# Altium integrated library Analog Devices Data Converters Digital-to-Analog Converters.IntLib: 2231 symbols (part 27 of 181)
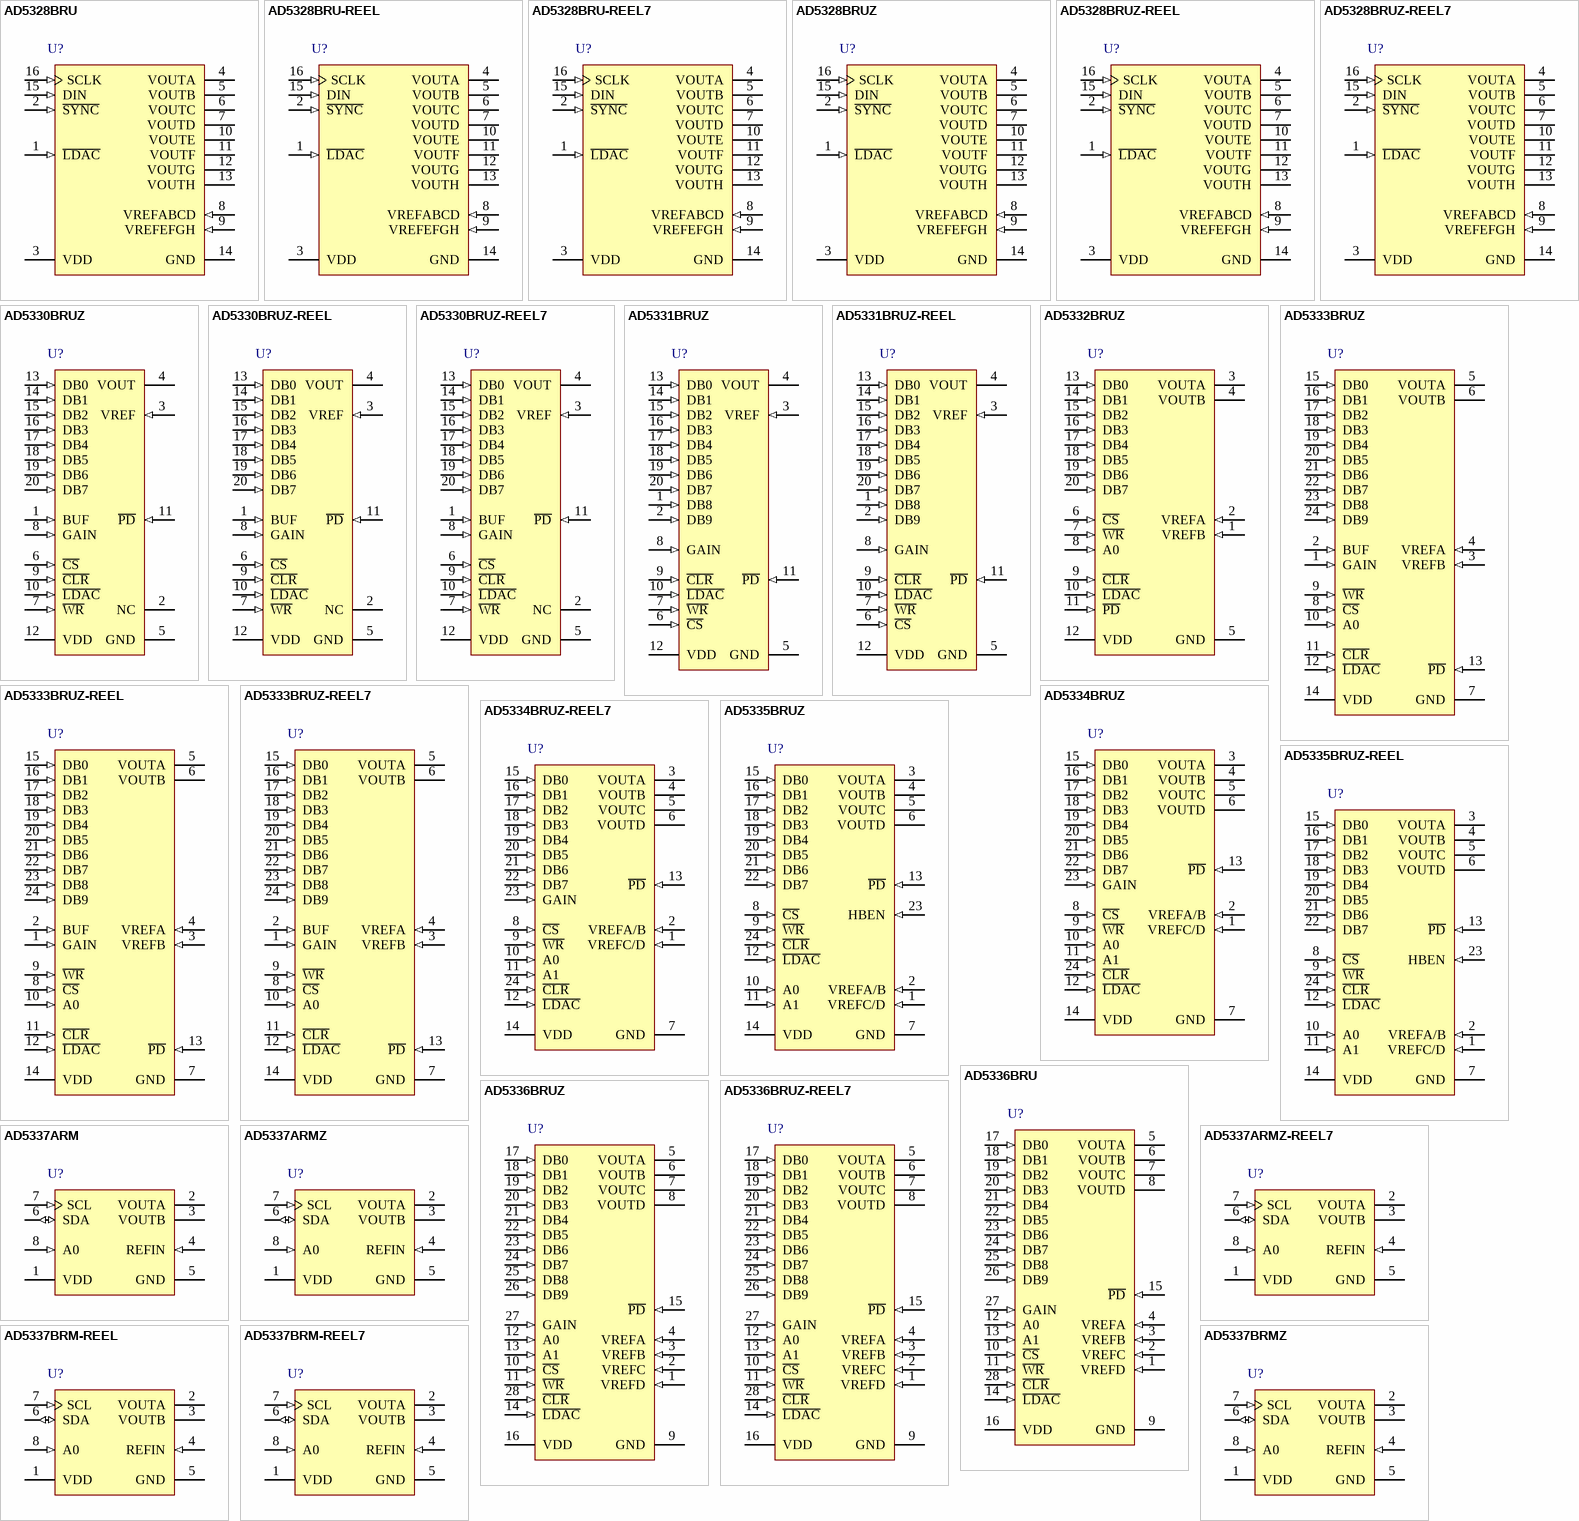
[diagram p140: symbols AD5328BRU to AD5337BRMZ]

## AD5336BRUZ-REEL7
designator U?
Quad 10-Bit Digital-to-Analog Converter, 2.5 to 5.5 V, -40 to +105 degC, RU-28, Pb-Free, Reel; Generic Part Number: AD5336; Manufacturer: Analog Devices; PartNumber: AD5336BRUZ-REEL7; # DAC Outputs: 4; Max V+: 5.5V; Op Pwr Diss: 4.5mW; Resolution (Bits): 10; Settling Time: 7µs; Single Supply: Yes; DatasheetVersion: Rev.0; PackageVersion: 2005; PackageReference: RU-28; PackageDescription: 28-Lead Thin Shrink Small Outline Package [TSSOP]; Supplier 1: Digi-Key; Supplier Part Number 1: AD5336BRUZ-REEL7-ND; Supplier 2: Mouser; Supplier Part Number 2: 584-AD5336BRUZ-R7; Packing: Reel; RoHS: Y; Mounting Technology: Surface Mount; Code_JEDEC: MO-153-AE; ComponentLink1Description: Manufacturer URL; ComponentLink1URL: http://www.analog.com/en/index.html; ComponentLink2Description: Datasheet; ComponentLink2URL: http://www.analog.com/static/imported-files/data_sheets/AD5334_5335_5336_5344.pdf; ComponentLink3Description: Package Specification; ComponentLink3URL: http://www.analog.com/static/imported-files/packages/249854663RU_28.pdf; ComponentLink4Description: Product URL; ComponentLink4URL: http://www.analog.com/en/digital-to-analog-converters/da-converters/ad5336/products/product.html
footprint RU-28_N (TSOP, 28-Leads, Body 9.7x4.4mm, Pitch 0.65mm, IPC Medium Density)
footprint RU-28_L (TSOP, 28-Leads, Body 9.7x4.4mm, Pitch 0.65mm, IPC High Density)
footprint RU-28_M (TSOP, 28-Leads, Body 9.7x4.4mm, Pitch 0.65mm, IPC Low Density)
pins: 1 VREFD (in) "Unbuffered Reference Input for DAC D.", 2 VREFC (in) "Unbuffered Reference Input for DAC C.", 3 VREFB (in) "Unbuffered Reference Input for DAC B.", 4 VREFA (in) "Unbuffered Reference Input for DAC A.", 5 VOUTA (hiz) "Output of DAC A. Buffered output with rail-to-rail operation.", 6 VOUTB (hiz) "Output of DAC B. Buffered output with rail-to-rail operation.", 7 VOUTC (hiz) "Output of DAC C. Buffered output with rail-to-rail operation.", 8 VOUTD (hiz) "Output of DAC D. Buffered output with rail-to-rail operation.", 9 GND (power) "Ground Reference Point for All Circuitry on the Part.", 10 ~{CS} (in) "Active Low Chip Select Input. This is used in conjunction with W\R\ to write data to the parallel interface", 11 ~{WR} (in) "Active Low Write Input. This is used in conjunction with C\S\ to write data to the parallel interface.", 12 A0 (in) "LSB Address Pin for Selecting which DAC Is to Be Written to.", 13 A1 (in) "MSB Address Pin for Selecting which DAC is to Be Written to.", 14 ~{LDAC} (in) "Active Low Control Input that Updates the DAC Registers with the Contents of the Input Registers. This allows all DAC outputs to be simultaneously updated.", 15 ~{PD} (in) "Power-Down Pin. This active low control pin puts all DACs into power-down mode.", 16 VDD (power) "Power Supply Pin. This part can operate from 2.5 V to 5.5 V and the supply should be decoupled with a 10 uF capacitor in parallel with a 0.1 uF capacitor to GND.", 17 DB0 (in) "10 Parallel Data Inputs.", 18 DB1 (in) "10 Parallel Data Inputs.", 19 DB2 (in) "10 Parallel Data Inputs.", 20 DB3 (in) "10 Parallel Data Inputs.", 21 DB4 (in) "10 Parallel Data Inputs.", 22 DB5 (in) "10 Parallel Data Inputs.", 23 DB6 (in) "10 Parallel Data Inputs.", 24 DB7 (in) "10 Parallel Data Inputs.", 25 DB8 (in) "10 Parallel Data Inputs.", 26 DB9 (in) "10 Parallel Data Inputs. DB9 is the MSB of these 10 bits.", 27 GAIN (in) "Gain Control Pin. This controls whether the output range from the DAC is 0-VREF or 0-2 VREF.", 28 ~{CLR} (in) "Asynchronous Active Low Control Input that Clears All Input Registers and DAC Registers to Zeros."

## AD5337ARM
designator U?
Dual 8-Bit Voltage Output Digital-to-Analog Converter with 2-WireInterface, 2.5 to 5.5 V, 250 uA, -40 to +105 degC, RM-8, Tube; Generic Part Number: AD5337; Manufacturer: Analog Devices; PartNumber: AD5337ARM; # DAC Outputs: 2; Max V+: 5.5V; Op Pwr Diss: 1.9mW; Resolution (Bits): 8; Settling Time: 6µs; Single Supply: Yes; DatasheetVersion: Rev.C; PackageVersion: Aug-2005; PackageReference: RM-8; PackageDescription: 8-Lead Mini Small Outline Package [MSOP]; Supplier 1: Digi-Key; Supplier Part Number 1: AD5337ARM-ND; Supplier 2: Mouser; Supplier Part Number 2: 584-AD5337ARM; Packing: Tube; RoHS: N; Mounting Technology: Surface Mount; Code_JEDEC: MO-187-AA; ComponentLink1Description: Manufacturer URL; ComponentLink1URL: http://www.analog.com/en/index.html; ComponentLink2Description: Datasheet; ComponentLink2URL: http://www.analog.com/static/imported-files/data_sheets/AD5337_5338_5339.pdf; ComponentLink3Description: Package Specification; ComponentLink3URL: http://www.analog.com/static/imported-files/packages/PKG_PDF/MSOP%28RM%29/RM_8.pdf; ComponentLink4Description: Product URL; ComponentLink4URL: http://www.analog.com/en/digital-to-analog-converters/da-converters/ad5337/products/product.html
footprint RM-8_N (TSOP, 8-Leads, Body 3x3mm, Pitch 0.65mm, IPC Medium Density)
footprint RM-8_L (TSOP, 8-Leads, Body 3x3mm, Pitch 0.65mm, IPC High Density)
footprint RM-8_M (TSOP, 8-Leads, Body 3x3mm, Pitch 0.65mm, IPC Low Density)
pins: 1 VDD (power) "Power Supply Input. These parts can be operated from 2.5 V to 5.5 V, and the supply should be decoupled to GND.", 2 VOUTA (hiz) "Buffered Analog Output Voltage from DAC A. The output amplifier has rail-to-rail operation.", 3 VOUTB (hiz) "Buffered Analog Output Voltage from DAC B. The output amplifier has rail-to-rail operation.", 4 REFIN (in) "Reference Input Pin for the Two DACs. It has an input range from 0.25 V to VDD.", 5 GND (power) "Ground Reference Point for All Circuitry on the Parts.", 6 SDA (io) "Serial Data Line. This is used in conjunction with the SCL line to clock data into or out of the 16-bit input shift register. SDA is a bidirectional open-drain data line that should be pulled to the supply with an external (See Datasheet)", 7 SCL (in) "Serial Clock Line. This is used in conjunction with the SDA line to clock data into or out of the 16-bit input shift register. Clock rates of up to 400 kbps can be accommodated in the 2-wire interface.", 8 A0 (in) "Address Input. Sets the least significant bit of the 7-bit slave address."

## AD5337ARMZ
designator U?
Dual 8-Bit Voltage Output Digital-to-Analog Converter with 2-WireInterface, 2.5 to 5.5 V, 250 uA, -40 to +105 degC, RM-8, Pb-Free, Tube; Generic Part Number: AD5337; Manufacturer: Analog Devices; PartNumber: AD5337ARMZ; # DAC Outputs: 2; Max V+: 5.5V; Op Pwr Diss: 1.9mW; Resolution (Bits): 8; Settling Time: 6µs; Single Supply: Yes; DatasheetVersion: Rev.C; PackageVersion: Aug-2005; PackageReference: RM-8; PackageDescription: 8-Lead Mini Small Outline Package [MSOP]; Supplier 1: Digi-Key; Supplier Part Number 1: AD5337ARMZ-ND; Supplier 2: Newark; Supplier Part Number 2: 59K3977; Supplier 3: Mouser; Supplier Part Number 3: 584-AD5337ARMZ; Packing: Tube; RoHS: Y; Mounting Technology: Surface Mount; Code_JEDEC: MO-187-AA; ComponentLink1Description: Manufacturer URL; ComponentLink1URL: http://www.analog.com/en/index.html; ComponentLink2Description: Datasheet; ComponentLink2URL: http://www.analog.com/static/imported-files/data_sheets/AD5337_5338_5339.pdf; ComponentLink3Description: Package Specification; ComponentLink3URL: http://www.analog.com/static/imported-files/packages/PKG_PDF/MSOP%28RM%29/RM_8.pdf; ComponentLink4Description: Product URL; ComponentLink4URL: http://www.analog.com/en/digital-to-analog-converters/da-converters/ad5337/products/product.html
footprint RM-8_N (TSOP, 8-Leads, Body 3x3mm, Pitch 0.65mm, IPC Medium Density)
footprint RM-8_L (TSOP, 8-Leads, Body 3x3mm, Pitch 0.65mm, IPC High Density)
footprint RM-8_M (TSOP, 8-Leads, Body 3x3mm, Pitch 0.65mm, IPC Low Density)
pins: 1 VDD (power) "Power Supply Input. These parts can be operated from 2.5 V to 5.5 V, and the supply should be decoupled to GND.", 2 VOUTA (hiz) "Buffered Analog Output Voltage from DAC A. The output amplifier has rail-to-rail operation.", 3 VOUTB (hiz) "Buffered Analog Output Voltage from DAC B. The output amplifier has rail-to-rail operation.", 4 REFIN (in) "Reference Input Pin for the Two DACs. It has an input range from 0.25 V to VDD.", 5 GND (power) "Ground Reference Point for All Circuitry on the Parts.", 6 SDA (io) "Serial Data Line. This is used in conjunction with the SCL line to clock data into or out of the 16-bit input shift register. SDA is a bidirectional open-drain data line that should be pulled to the supply with an external (See Datasheet)", 7 SCL (in) "Serial Clock Line. This is used in conjunction with the SDA line to clock data into or out of the 16-bit input shift register. Clock rates of up to 400 kbps can be accommodated in the 2-wire interface.", 8 A0 (in) "Address Input. Sets the least significant bit of the 7-bit slave address."

## AD5337ARMZ-REEL7
designator U?
Dual 8-Bit Voltage Output Digital-to-Analog Converter with 2-WireInterface, 2.5 to 5.5 V, 250 uA, -40 to +105 degC, RM-8, Pb-Free, Reel; Generic Part Number: AD5337; Manufacturer: Analog Devices; PartNumber: AD5337ARMZ-REEL7; # DAC Outputs: 2; Max V+: 5.5V; Op Pwr Diss: 1.9mW; Resolution (Bits): 8; Settling Time: 6µs; Single Supply: Yes; DatasheetVersion: Rev.C; PackageVersion: Aug-2005; PackageReference: RM-8; PackageDescription: 8-Lead Mini Small Outline Package [MSOP]; Supplier 1: Digi-Key; Supplier Part Number 1: AD5337ARMZ-REEL7TR-ND; Supplier 2: Digi-Key; Supplier Part Number 2: AD5337ARMZ-REEL7CT-ND; Supplier 3: Digi-Key; Supplier Part Number 3: AD5337ARMZ-REEL7DKR-ND; Supplier 4: Newark; Supplier Part Number 4: 59K3978; Supplier 5: Mouser; Supplier Part Number 5: 584-AD5337ARMZ-R7; Packing: Reel; RoHS: Y; Mounting Technology: Surface Mount; Code_JEDEC: MO-187-AA; ComponentLink1Description: Manufacturer URL; ComponentLink1URL: http://www.analog.com/en/index.html; ComponentLink2Description: Datasheet; ComponentLink2URL: http://www.analog.com/static/imported-files/data_sheets/AD5337_5338_5339.pdf; ComponentLink3Description: Package Specification; ComponentLink3URL: http://www.analog.com/static/imported-files/packages/PKG_PDF/MSOP%28RM%29/RM_8.pdf; ComponentLink4Description: Product URL; ComponentLink4URL: http://www.analog.com/en/digital-to-analog-converters/da-converters/ad5337/products/product.html
footprint RM-8_N (TSOP, 8-Leads, Body 3x3mm, Pitch 0.65mm, IPC Medium Density)
footprint RM-8_L (TSOP, 8-Leads, Body 3x3mm, Pitch 0.65mm, IPC High Density)
footprint RM-8_M (TSOP, 8-Leads, Body 3x3mm, Pitch 0.65mm, IPC Low Density)
pins: 1 VDD (power) "Power Supply Input. These parts can be operated from 2.5 V to 5.5 V, and the supply should be decoupled to GND.", 2 VOUTA (hiz) "Buffered Analog Output Voltage from DAC A. The output amplifier has rail-to-rail operation.", 3 VOUTB (hiz) "Buffered Analog Output Voltage from DAC B. The output amplifier has rail-to-rail operation.", 4 REFIN (in) "Reference Input Pin for the Two DACs. It has an input range from 0.25 V to VDD.", 5 GND (power) "Ground Reference Point for All Circuitry on the Parts.", 6 SDA (io) "Serial Data Line. This is used in conjunction with the SCL line to clock data into or out of the 16-bit input shift register. SDA is a bidirectional open-drain data line that should be pulled to the supply with an external (See Datasheet)", 7 SCL (in) "Serial Clock Line. This is used in conjunction with the SDA line to clock data into or out of the 16-bit input shift register. Clock rates of up to 400 kbps can be accommodated in the 2-wire interface.", 8 A0 (in) "Address Input. Sets the least significant bit of the 7-bit slave address."

## AD5337BRM-REEL
designator U?
Dual 8-Bit Voltage Output Digital-to-Analog Converter with 2-WireInterface, 2.5 to 5.5 V, 250 uA, -40 to +105 degC, RM-8, Reel; Generic Part Number: AD5337; Manufacturer: Analog Devices; PartNumber: AD5337BRM-REEL; # DAC Outputs: 2; Max V+: 5.5V; Op Pwr Diss: 1.9mW; Resolution (Bits): 8; Settling Time: 6µs; Single Supply: Yes; DatasheetVersion: Rev.C; PackageVersion: Aug-2005; PackageReference: RM-8; PackageDescription: 8-Lead Mini Small Outline Package [MSOP]; Supplier 1: Digi-Key; Supplier Part Number 1: AD5337BRM-REELTR-ND; Supplier 2: Digi-Key; Supplier Part Number 2: AD5337BRM-REELCT-ND; Supplier 3: Digi-Key; Supplier Part Number 3: AD5337BRM-REELDKR-ND; Supplier 4: Mouser; Supplier Part Number 4: 584-AD5337BRM-R; Packing: Reel; RoHS: N; Mounting Technology: Surface Mount; Code_JEDEC: MO-187-AA; ComponentLink1Description: Manufacturer URL; ComponentLink1URL: http://www.analog.com/en/index.html; ComponentLink2Description: Datasheet; ComponentLink2URL: http://www.analog.com/static/imported-files/data_sheets/AD5337_5338_5339.pdf; ComponentLink3Description: Package Specification; ComponentLink3URL: http://www.analog.com/static/imported-files/packages/PKG_PDF/MSOP%28RM%29/RM_8.pdf; ComponentLink4Description: Product URL; ComponentLink4URL: http://www.analog.com/en/digital-to-analog-converters/da-converters/ad5337/products/product.html
footprint RM-8_N (TSOP, 8-Leads, Body 3x3mm, Pitch 0.65mm, IPC Medium Density)
footprint RM-8_L (TSOP, 8-Leads, Body 3x3mm, Pitch 0.65mm, IPC High Density)
footprint RM-8_M (TSOP, 8-Leads, Body 3x3mm, Pitch 0.65mm, IPC Low Density)
pins: 1 VDD (power) "Power Supply Input. These parts can be operated from 2.5 V to 5.5 V, and the supply should be decoupled to GND.", 2 VOUTA (hiz) "Buffered Analog Output Voltage from DAC A. The output amplifier has rail-to-rail operation.", 3 VOUTB (hiz) "Buffered Analog Output Voltage from DAC B. The output amplifier has rail-to-rail operation.", 4 REFIN (in) "Reference Input Pin for the Two DACs. It has an input range from 0.25 V to VDD.", 5 GND (power) "Ground Reference Point for All Circuitry on the Parts.", 6 SDA (io) "Serial Data Line. This is used in conjunction with the SCL line to clock data into or out of the 16-bit input shift register. SDA is a bidirectional open-drain data line that should be pulled to the supply with an external (See Datasheet)", 7 SCL (in) "Serial Clock Line. This is used in conjunction with the SDA line to clock data into or out of the 16-bit input shift register. Clock rates of up to 400 kbps can be accommodated in the 2-wire interface.", 8 A0 (in) "Address Input. Sets the least significant bit of the 7-bit slave address."

## AD5337BRM-REEL7
designator U?
Dual 8-Bit Voltage Output Digital-to-Analog Converter with 2-WireInterface, 2.5 to 5.5 V, 250 uA, -40 to +105 degC, RM-8, Reel; Generic Part Number: AD5337; Manufacturer: Analog Devices; PartNumber: AD5337BRM-REEL7; # DAC Outputs: 2; Max V+: 5.5V; Op Pwr Diss: 1.9mW; Resolution (Bits): 8; Settling Time: 6µs; Single Supply: Yes; DatasheetVersion: Rev.C; PackageVersion: Aug-2005; PackageReference: RM-8; PackageDescription: 8-Lead Mini Small Outline Package [MSOP]; Supplier 1: Digi-Key; Supplier Part Number 1: AD5337BRM-REEL7TR-ND; Supplier 2: Digi-Key; Supplier Part Number 2: AD5337BRM-REEL7CT-ND; Supplier 3: Digi-Key; Supplier Part Number 3: AD5337BRM-REEL7DKR-ND; Supplier 4: Mouser; Supplier Part Number 4: 584-AD5337BRM-R7; Packing: Reel; RoHS: N; Mounting Technology: Surface Mount; Code_JEDEC: MO-187-AA; ComponentLink1Description: Manufacturer URL; ComponentLink1URL: http://www.analog.com/en/index.html; ComponentLink2Description: Datasheet; ComponentLink2URL: http://www.analog.com/static/imported-files/data_sheets/AD5337_5338_5339.pdf; ComponentLink3Description: Package Specification; ComponentLink3URL: http://www.analog.com/static/imported-files/packages/PKG_PDF/MSOP%28RM%29/RM_8.pdf; ComponentLink4Description: Product URL; ComponentLink4URL: http://www.analog.com/en/digital-to-analog-converters/da-converters/ad5337/products/product.html
footprint RM-8_N (TSOP, 8-Leads, Body 3x3mm, Pitch 0.65mm, IPC Medium Density)
footprint RM-8_L (TSOP, 8-Leads, Body 3x3mm, Pitch 0.65mm, IPC High Density)
footprint RM-8_M (TSOP, 8-Leads, Body 3x3mm, Pitch 0.65mm, IPC Low Density)
pins: 1 VDD (power) "Power Supply Input. These parts can be operated from 2.5 V to 5.5 V, and the supply should be decoupled to GND.", 2 VOUTA (hiz) "Buffered Analog Output Voltage from DAC A. The output amplifier has rail-to-rail operation.", 3 VOUTB (hiz) "Buffered Analog Output Voltage from DAC B. The output amplifier has rail-to-rail operation.", 4 REFIN (in) "Reference Input Pin for the Two DACs. It has an input range from 0.25 V to VDD.", 5 GND (power) "Ground Reference Point for All Circuitry on the Parts.", 6 SDA (io) "Serial Data Line. This is used in conjunction with the SCL line to clock data into or out of the 16-bit input shift register. SDA is a bidirectional open-drain data line that should be pulled to the supply with an external (See Datasheet)", 7 SCL (in) "Serial Clock Line. This is used in conjunction with the SDA line to clock data into or out of the 16-bit input shift register. Clock rates of up to 400 kbps can be accommodated in the 2-wire interface.", 8 A0 (in) "Address Input. Sets the least significant bit of the 7-bit slave address."

## AD5337BRMZ
designator U?
Dual 8-Bit Voltage Output Digital-to-Analog Converter with 2-WireInterface, 2.5 to 5.5 V, 250 uA, -40 to +105 degC, RM-8, Pb-Free, Tube; Generic Part Number: AD5337; Manufacturer: Analog Devices; PartNumber: AD5337BRMZ; # DAC Outputs: 2; Max V+: 5.5V; Op Pwr Diss: 1.9mW; Resolution (Bits): 8; Settling Time: 6µs; Single Supply: Yes; DatasheetVersion: Rev.C; PackageVersion: Aug-2005; PackageReference: RM-8; PackageDescription: 8-Lead Mini Small Outline Package [MSOP]; Supplier 1: Digi-Key; Supplier Part Number 1: AD5337BRMZ-ND; Supplier 2: Newark; Supplier Part Number 2: 59K3979; Supplier 3: Mouser; Supplier Part Number 3: 584-AD5337BRMZ; Packing: Tube; RoHS: Y; Mounting Technology: Surface Mount; Code_JEDEC: MO-187-AA; ComponentLink1Description: Manufacturer URL; ComponentLink1URL: http://www.analog.com/en/index.html; ComponentLink2Description: Datasheet; ComponentLink2URL: http://www.analog.com/static/imported-files/data_sheets/AD5337_5338_5339.pdf; ComponentLink3Description: Package Specification; ComponentLink3URL: http://www.analog.com/static/imported-files/packages/PKG_PDF/MSOP%28RM%29/RM_8.pdf; ComponentLink4Description: Product URL; ComponentLink4URL: http://www.analog.com/en/digital-to-analog-converters/da-converters/ad5337/products/product.html
footprint RM-8_N (TSOP, 8-Leads, Body 3x3mm, Pitch 0.65mm, IPC Medium Density)
footprint RM-8_L (TSOP, 8-Leads, Body 3x3mm, Pitch 0.65mm, IPC High Density)
footprint RM-8_M (TSOP, 8-Leads, Body 3x3mm, Pitch 0.65mm, IPC Low Density)
pins: 1 VDD (power) "Power Supply Input. These parts can be operated from 2.5 V to 5.5 V, and the supply should be decoupled to GND.", 2 VOUTA (hiz) "Buffered Analog Output Voltage from DAC A. The output amplifier has rail-to-rail operation.", 3 VOUTB (hiz) "Buffered Analog Output Voltage from DAC B. The output amplifier has rail-to-rail operation.", 4 REFIN (in) "Reference Input Pin for the Two DACs. It has an input range from 0.25 V to VDD.", 5 GND (power) "Ground Reference Point for All Circuitry on the Parts.", 6 SDA (io) "Serial Data Line. This is used in conjunction with the SCL line to clock data into or out of the 16-bit input shift register. SDA is a bidirectional open-drain data line that should be pulled to the supply with an external (See Datasheet)", 7 SCL (in) "Serial Clock Line. This is used in conjunction with the SDA line to clock data into or out of the 16-bit input shift register. Clock rates of up to 400 kbps can be accommodated in the 2-wire interface.", 8 A0 (in) "Address Input. Sets the least significant bit of the 7-bit slave address."

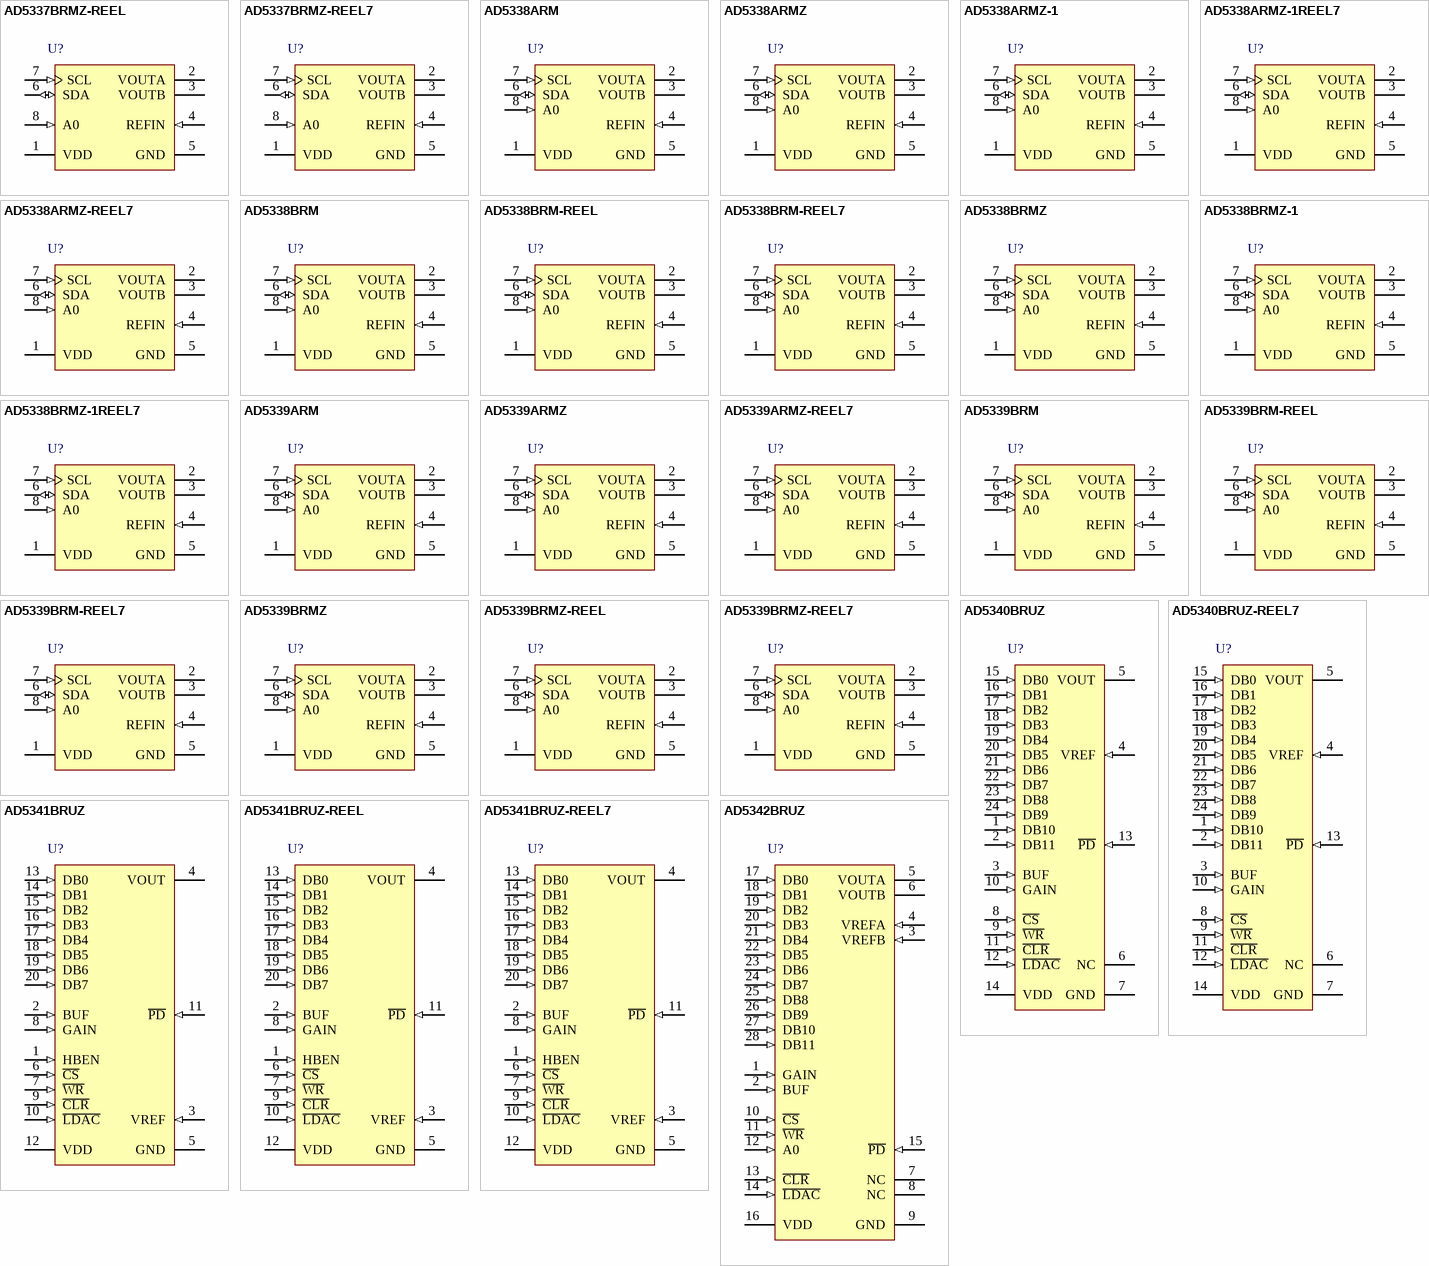
[diagram p16: symbols AD5337BRMZ-REEL to AD5342BRUZ]

## AD5337BRMZ-REEL
designator U?
Dual 8-Bit Voltage Output Digital-to-Analog Converter with 2-WireInterface, 2.5 to 5.5 V, 250 uA, -40 to +105 degC, RM-8, Pb-Free, Reel; Generic Part Number: AD5337; Manufacturer: Analog Devices; PartNumber: AD5337BRMZ-REEL; # DAC Outputs: 2; Max V+: 5.5V; Op Pwr Diss: 1.9mW; Resolution (Bits): 8; Settling Time: 6µs; Single Supply: Yes; DatasheetVersion: Rev.C; PackageVersion: Aug-2005; PackageReference: RM-8; PackageDescription: 8-Lead Mini Small Outline Package [MSOP]; Supplier 1: Digi-Key; Supplier Part Number 1: AD5337BRMZ-REEL-ND; Supplier 2: Mouser; Supplier Part Number 2: 584-AD5337BRMZ-R; Packing: Reel; RoHS: Y; Mounting Technology: Surface Mount; Code_JEDEC: MO-187-AA; ComponentLink1Description: Manufacturer URL; ComponentLink1URL: http://www.analog.com/en/index.html; ComponentLink2Description: Datasheet; ComponentLink2URL: http://www.analog.com/static/imported-files/data_sheets/AD5337_5338_5339.pdf; ComponentLink3Description: Package Specification; ComponentLink3URL: http://www.analog.com/static/imported-files/packages/PKG_PDF/MSOP%28RM%29/RM_8.pdf; ComponentLink4Description: Product URL; ComponentLink4URL: http://www.analog.com/en/digital-to-analog-converters/da-converters/ad5337/products/product.html
footprint RM-8_N (TSOP, 8-Leads, Body 3x3mm, Pitch 0.65mm, IPC Medium Density)
footprint RM-8_L (TSOP, 8-Leads, Body 3x3mm, Pitch 0.65mm, IPC High Density)
footprint RM-8_M (TSOP, 8-Leads, Body 3x3mm, Pitch 0.65mm, IPC Low Density)
pins: 1 VDD (power) "Power Supply Input. These parts can be operated from 2.5 V to 5.5 V, and the supply should be decoupled to GND.", 2 VOUTA (hiz) "Buffered Analog Output Voltage from DAC A. The output amplifier has rail-to-rail operation.", 3 VOUTB (hiz) "Buffered Analog Output Voltage from DAC B. The output amplifier has rail-to-rail operation.", 4 REFIN (in) "Reference Input Pin for the Two DACs. It has an input range from 0.25 V to VDD.", 5 GND (power) "Ground Reference Point for All Circuitry on the Parts.", 6 SDA (io) "Serial Data Line. This is used in conjunction with the SCL line to clock data into or out of the 16-bit input shift register. SDA is a bidirectional open-drain data line that should be pulled to the supply with an external (See Datasheet)", 7 SCL (in) "Serial Clock Line. This is used in conjunction with the SDA line to clock data into or out of the 16-bit input shift register. Clock rates of up to 400 kbps can be accommodated in the 2-wire interface.", 8 A0 (in) "Address Input. Sets the least significant bit of the 7-bit slave address."

## AD5337BRMZ-REEL7
designator U?
Dual 8-Bit Voltage Output Digital-to-Analog Converter with 2-WireInterface, 2.5 to 5.5 V, 250 uA, -40 to +105 degC, RM-8, Pb-Free, Reel; Generic Part Number: AD5337; Manufacturer: Analog Devices; PartNumber: AD5337BRMZ-REEL7; # DAC Outputs: 2; Max V+: 5.5V; Op Pwr Diss: 1.9mW; Resolution (Bits): 8; Settling Time: 6µs; Single Supply: Yes; DatasheetVersion: Rev.C; PackageVersion: Aug-2005; PackageReference: RM-8; PackageDescription: 8-Lead Mini Small Outline Package [MSOP]; Supplier 1: Digi-Key; Supplier Part Number 1: AD5337BRMZ-REEL7-ND; Supplier 2: Mouser; Supplier Part Number 2: 584-AD5337BRMZ-R7; Packing: Reel; RoHS: Y; Mounting Technology: Surface Mount; Code_JEDEC: MO-187-AA; ComponentLink1Description: Manufacturer URL; ComponentLink1URL: http://www.analog.com/en/index.html; ComponentLink2Description: Datasheet; ComponentLink2URL: http://www.analog.com/static/imported-files/data_sheets/AD5337_5338_5339.pdf; ComponentLink3Description: Package Specification; ComponentLink3URL: http://www.analog.com/static/imported-files/packages/PKG_PDF/MSOP%28RM%29/RM_8.pdf; ComponentLink4Description: Product URL; ComponentLink4URL: http://www.analog.com/en/digital-to-analog-converters/da-converters/ad5337/products/product.html
footprint RM-8_N (TSOP, 8-Leads, Body 3x3mm, Pitch 0.65mm, IPC Medium Density)
footprint RM-8_L (TSOP, 8-Leads, Body 3x3mm, Pitch 0.65mm, IPC High Density)
footprint RM-8_M (TSOP, 8-Leads, Body 3x3mm, Pitch 0.65mm, IPC Low Density)
pins: 1 VDD (power) "Power Supply Input. These parts can be operated from 2.5 V to 5.5 V, and the supply should be decoupled to GND.", 2 VOUTA (hiz) "Buffered Analog Output Voltage from DAC A. The output amplifier has rail-to-rail operation.", 3 VOUTB (hiz) "Buffered Analog Output Voltage from DAC B. The output amplifier has rail-to-rail operation.", 4 REFIN (in) "Reference Input Pin for the Two DACs. It has an input range from 0.25 V to VDD.", 5 GND (power) "Ground Reference Point for All Circuitry on the Parts.", 6 SDA (io) "Serial Data Line. This is used in conjunction with the SCL line to clock data into or out of the 16-bit input shift register. SDA is a bidirectional open-drain data line that should be pulled to the supply with an external (See Datasheet)", 7 SCL (in) "Serial Clock Line. This is used in conjunction with the SDA line to clock data into or out of the 16-bit input shift register. Clock rates of up to 400 kbps can be accommodated in the 2-wire interface.", 8 A0 (in) "Address Input. Sets the least significant bit of the 7-bit slave address."

## AD5338ARM
designator U?
Dual 10-Bit Voltage Output Digital-to-Analog Converter with 2-WireInterface, 2.5 to 5.5 V, 250 uA, -40 to +105 degC, RM-8, Tube; Generic Part Number: AD5338; Manufacturer: Analog Devices; PartNumber: AD5338ARM; # DAC Outputs: 2; Max V+: 5.5V; Op Pwr Diss: 1.9mW; Resolution (Bits): 10; Settling Time: 7µs; Single Supply: Yes; DatasheetVersion: Rev.C; PackageVersion: Aug-2005; PackageReference: RM-8; PackageDescription: 8-Lead Mini Small Outline Package [MSOP]; Supplier 1: Digi-Key; Supplier Part Number 1: AD5338ARM-ND; Supplier 2: Mouser; Supplier Part Number 2: 584-AD5338ARM; Packing: Tube; RoHS: N; Mounting Technology: Surface Mount; Code_JEDEC: MO-187-AA; ComponentLink1Description: Manufacturer URL; ComponentLink1URL: http://www.analog.com/en/index.html; ComponentLink2Description: Datasheet; ComponentLink2URL: http://www.analog.com/static/imported-files/data_sheets/AD5337_5338_5339.pdf; ComponentLink3Description: Package Specification; ComponentLink3URL: http://www.analog.com/static/imported-files/packages/PKG_PDF/MSOP%28RM%29/RM_8.pdf; ComponentLink4Description: Product URL; ComponentLink4URL: http://www.analog.com/en/digital-to-analog-converters/da-converters/ad5338/products/product.html
footprint RM-8_N (TSOP, 8-Leads, Body 3x3mm, Pitch 0.65mm, IPC Medium Density)
footprint RM-8_L (TSOP, 8-Leads, Body 3x3mm, Pitch 0.65mm, IPC High Density)
footprint RM-8_M (TSOP, 8-Leads, Body 3x3mm, Pitch 0.65mm, IPC Low Density)
pins: 1 VDD (power) "Power Supply Input. These parts can be operated from 2.5 V to 5.5 V, and the supply should be decoupled to GND.", 2 VOUTA (hiz) "Buffered Analog Output Voltage from DAC A. The output amplifier has rail-to-rail operation.", 3 VOUTB (hiz) "Buffered Analog Output Voltage from DAC B. The output amplifier has rail-to-rail operation.", 4 REFIN (in) "Reference Input Pin for the Two DACs. It has an input range from 0.25 V to VDD.", 5 GND (power) "Ground Reference Point for All Circuitry on the Parts.", 6 SDA (io) "Serial Data Line. This is used in conjunction with the SCL line to clock data into or out of the 16-bit input shift register. SDA is a bidirectional open-drain data line that should be pulled to the supply with an external (See Datasheet)", 7 SCL (in) "Serial Clock Line. This is used in conjunction with the SDA line to clock data into or out of the 16-bit input shift register. Clock rates of up to 400 kbps can be accommodated in the 2-wire interface.", 8 A0 (in) "Address Input. Sets the least significant bit of the 7-bit slave address."

## AD5338ARMZ
designator U?
Dual 10-Bit Voltage Output Digital-to-Analog Converter with 2-WireInterface, 2.5 to 5.5 V, 250 uA, -40 to +105 degC, RM-8, Pb-Free, Tube; Generic Part Number: AD5338; Manufacturer: Analog Devices; PartNumber: AD5338ARMZ; # DAC Outputs: 2; Max V+: 5.5V; Op Pwr Diss: 1.9mW; Resolution (Bits): 10; Settling Time: 7µs; Single Supply: Yes; DatasheetVersion: Rev.C; PackageVersion: Aug-2005; PackageReference: RM-8; PackageDescription: 8-Lead Mini Small Outline Package [MSOP]; Supplier 1: Digi-Key; Supplier Part Number 1: AD5338ARMZ-ND; Supplier 2: Farnell; Supplier Part Number 2: 1581915; Supplier 3: Newark; Supplier Part Number 3: 19M0817; Supplier 4: Mouser; Supplier Part Number 4: 584-AD5338ARMZ; Packing: Tube; RoHS: Y; Mounting Technology: Surface Mount; Code_JEDEC: MO-187-AA; ComponentLink1Description: Manufacturer URL; ComponentLink1URL: http://www.analog.com/en/index.html; ComponentLink2Description: Datasheet; ComponentLink2URL: http://www.analog.com/static/imported-files/data_sheets/AD5337_5338_5339.pdf; ComponentLink3Description: Package Specification; ComponentLink3URL: http://www.analog.com/static/imported-files/packages/PKG_PDF/MSOP%28RM%29/RM_8.pdf; ComponentLink4Description: Product URL; ComponentLink4URL: http://www.analog.com/en/digital-to-analog-converters/da-converters/ad5338/products/product.html
footprint RM-8_N (TSOP, 8-Leads, Body 3x3mm, Pitch 0.65mm, IPC Medium Density)
footprint RM-8_L (TSOP, 8-Leads, Body 3x3mm, Pitch 0.65mm, IPC High Density)
footprint RM-8_M (TSOP, 8-Leads, Body 3x3mm, Pitch 0.65mm, IPC Low Density)
pins: 1 VDD (power) "Power Supply Input. These parts can be operated from 2.5 V to 5.5 V, and the supply should be decoupled to GND.", 2 VOUTA (hiz) "Buffered Analog Output Voltage from DAC A. The output amplifier has rail-to-rail operation.", 3 VOUTB (hiz) "Buffered Analog Output Voltage from DAC B. The output amplifier has rail-to-rail operation.", 4 REFIN (in) "Reference Input Pin for the Two DACs. It has an input range from 0.25 V to VDD.", 5 GND (power) "Ground Reference Point for All Circuitry on the Parts.", 6 SDA (io) "Serial Data Line. This is used in conjunction with the SCL line to clock data into or out of the 16-bit input shift register. SDA is a bidirectional open-drain data line that should be pulled to the supply with an external (See Datasheet)", 7 SCL (in) "Serial Clock Line. This is used in conjunction with the SDA line to clock data into or out of the 16-bit input shift register. Clock rates of up to 400 kbps can be accommodated in the 2-wire interface.", 8 A0 (in) "Address Input. Sets the least significant bit of the 7-bit slave address."

## AD5338ARMZ-1
designator U?
Dual 10-Bit Voltage Output Digital-to-Analog Converter with 2-WireInterface, 2.5 to 5.5 V, 250 uA, -40 to +105 degC, RM-8, Pb-Free, Tube; Generic Part Number: AD5338; Manufacturer: Analog Devices; PartNumber: AD5338ARMZ-1; # DAC Outputs: 2; Max V+: 5.5V; Op Pwr Diss: 1.9mW; Resolution (Bits): 10; Settling Time: 7µs; Single Supply: Yes; DatasheetVersion: Rev.C; PackageVersion: Aug-2005; PackageReference: RM-8; PackageDescription: 8-Lead Mini Small Outline Package [MSOP]; Supplier 1: Digi-Key; Supplier Part Number 1: AD5338ARMZ-1-ND; Supplier 2: Newark; Supplier Part Number 2: 79R2328; Supplier 3: Mouser; Supplier Part Number 3: 584-AD5338ARMZ-1; Packing: Tube; RoHS: Y; Mounting Technology: Surface Mount; Code_JEDEC: MO-187-AA; ComponentLink1Description: Manufacturer URL; ComponentLink1URL: http://www.analog.com/en/index.html; ComponentLink2Description: Datasheet; ComponentLink2URL: http://www.analog.com/static/imported-files/data_sheets/AD5337_5338_5339.pdf; ComponentLink3Description: Package Specification; ComponentLink3URL: http://www.analog.com/static/imported-files/packages/PKG_PDF/MSOP%28RM%29/RM_8.pdf; ComponentLink4Description: Product URL; ComponentLink4URL: http://www.analog.com/en/digital-to-analog-converters/da-converters/ad5338/products/product.html
footprint RM-8_N (TSOP, 8-Leads, Body 3x3mm, Pitch 0.65mm, IPC Medium Density)
footprint RM-8_L (TSOP, 8-Leads, Body 3x3mm, Pitch 0.65mm, IPC High Density)
footprint RM-8_M (TSOP, 8-Leads, Body 3x3mm, Pitch 0.65mm, IPC Low Density)
pins: 1 VDD (power) "Power Supply Input. These parts can be operated from 2.5 V to 5.5 V, and the supply should be decoupled to GND.", 2 VOUTA (hiz) "Buffered Analog Output Voltage from DAC A. The output amplifier has rail-to-rail operation.", 3 VOUTB (hiz) "Buffered Analog Output Voltage from DAC B. The output amplifier has rail-to-rail operation.", 4 REFIN (in) "Reference Input Pin for the Two DACs. It has an input range from 0.25 V to VDD.", 5 GND (power) "Ground Reference Point for All Circuitry on the Parts.", 6 SDA (io) "Serial Data Line. This is used in conjunction with the SCL line to clock data into or out of the 16-bit input shift register. SDA is a bidirectional open-drain data line that should be pulled to the supply with an external (See Datasheet)", 7 SCL (in) "Serial Clock Line. This is used in conjunction with the SDA line to clock data into or out of the 16-bit input shift register. Clock rates of up to 400 kbps can be accommodated in the 2-wire interface.", 8 A0 (in) "Address Input. Sets the least significant bit of the 7-bit slave address."

## AD5338ARMZ-1REEL7
designator U?
Dual 10-Bit Voltage Output Digital-to-Analog Converter with 2-WireInterface, 2.5 to 5.5 V, 250 uA, -40 to +105 degC, RM-8, Pb-Free, Reel; Generic Part Number: AD5338; Manufacturer: Analog Devices; PartNumber: AD5338ARMZ-1REEL7; # DAC Outputs: 2; Max V+: 5.5V; Op Pwr Diss: 1.9mW; Resolution (Bits): 10; Settling Time: 7µs; Single Supply: Yes; DatasheetVersion: Rev.C; PackageVersion: Aug-2005; PackageReference: RM-8; PackageDescription: 8-Lead Mini Small Outline Package [MSOP]; Supplier 1: Digi-Key; Supplier Part Number 1: AD5338ARMZ-1REEL7-ND; Supplier 2: Newark; Supplier Part Number 2: 79R2329; Supplier 3: Mouser; Supplier Part Number 3: 584-AD5338ARMZ-1R7; Packing: Reel; RoHS: Y; Mounting Technology: Surface Mount; Code_JEDEC: MO-187-AA; ComponentLink1Description: Manufacturer URL; ComponentLink1URL: http://www.analog.com/en/index.html; ComponentLink2Description: Datasheet; ComponentLink2URL: http://www.analog.com/static/imported-files/data_sheets/AD5337_5338_5339.pdf; ComponentLink3Description: Package Specification; ComponentLink3URL: http://www.analog.com/static/imported-files/packages/PKG_PDF/MSOP%28RM%29/RM_8.pdf; ComponentLink4Description: Product URL; ComponentLink4URL: http://www.analog.com/en/digital-to-analog-converters/da-converters/ad5338/products/product.html
footprint RM-8_N (TSOP, 8-Leads, Body 3x3mm, Pitch 0.65mm, IPC Medium Density)
footprint RM-8_L (TSOP, 8-Leads, Body 3x3mm, Pitch 0.65mm, IPC High Density)
footprint RM-8_M (TSOP, 8-Leads, Body 3x3mm, Pitch 0.65mm, IPC Low Density)
pins: 1 VDD (power) "Power Supply Input. These parts can be operated from 2.5 V to 5.5 V, and the supply should be decoupled to GND.", 2 VOUTA (hiz) "Buffered Analog Output Voltage from DAC A. The output amplifier has rail-to-rail operation.", 3 VOUTB (hiz) "Buffered Analog Output Voltage from DAC B. The output amplifier has rail-to-rail operation.", 4 REFIN (in) "Reference Input Pin for the Two DACs. It has an input range from 0.25 V to VDD.", 5 GND (power) "Ground Reference Point for All Circuitry on the Parts.", 6 SDA (io) "Serial Data Line. This is used in conjunction with the SCL line to clock data into or out of the 16-bit input shift register. SDA is a bidirectional open-drain data line that should be pulled to the supply with an external (See Datasheet)", 7 SCL (in) "Serial Clock Line. This is used in conjunction with the SDA line to clock data into or out of the 16-bit input shift register. Clock rates of up to 400 kbps can be accommodated in the 2-wire interface.", 8 A0 (in) "Address Input. Sets the least significant bit of the 7-bit slave address."

## AD5338ARMZ-REEL7
designator U?
Dual 10-Bit Voltage Output Digital-to-Analog Converter with 2-WireInterface, 2.5 to 5.5 V, 250 uA, -40 to +105 degC, RM-8, Pb-Free, Reel; Generic Part Number: AD5338; Manufacturer: Analog Devices; PartNumber: AD5338ARMZ-REEL7; # DAC Outputs: 2; Max V+: 5.5V; Op Pwr Diss: 1.9mW; Resolution (Bits): 10; Settling Time: 7µs; Single Supply: Yes; DatasheetVersion: Rev.C; PackageVersion: Aug-2005; PackageReference: RM-8; PackageDescription: 8-Lead Mini Small Outline Package [MSOP]; Supplier 1: Digi-Key; Supplier Part Number 1: AD5338ARMZ-REEL7-ND; Supplier 2: Mouser; Supplier Part Number 2: 584-AD5338ARMZ-R7; Packing: Reel; RoHS: Y; Mounting Technology: Surface Mount; Code_JEDEC: MO-187-AA; ComponentLink1Description: Manufacturer URL; ComponentLink1URL: http://www.analog.com/en/index.html; ComponentLink2Description: Datasheet; ComponentLink2URL: http://www.analog.com/static/imported-files/data_sheets/AD5337_5338_5339.pdf; ComponentLink3Description: Package Specification; ComponentLink3URL: http://www.analog.com/static/imported-files/packages/PKG_PDF/MSOP%28RM%29/RM_8.pdf; ComponentLink4Description: Product URL; ComponentLink4URL: http://www.analog.com/en/digital-to-analog-converters/da-converters/ad5338/products/product.html
footprint RM-8_N (TSOP, 8-Leads, Body 3x3mm, Pitch 0.65mm, IPC Medium Density)
footprint RM-8_L (TSOP, 8-Leads, Body 3x3mm, Pitch 0.65mm, IPC High Density)
footprint RM-8_M (TSOP, 8-Leads, Body 3x3mm, Pitch 0.65mm, IPC Low Density)
pins: 1 VDD (power) "Power Supply Input. These parts can be operated from 2.5 V to 5.5 V, and the supply should be decoupled to GND.", 2 VOUTA (hiz) "Buffered Analog Output Voltage from DAC A. The output amplifier has rail-to-rail operation.", 3 VOUTB (hiz) "Buffered Analog Output Voltage from DAC B. The output amplifier has rail-to-rail operation.", 4 REFIN (in) "Reference Input Pin for the Two DACs. It has an input range from 0.25 V to VDD.", 5 GND (power) "Ground Reference Point for All Circuitry on the Parts.", 6 SDA (io) "Serial Data Line. This is used in conjunction with the SCL line to clock data into or out of the 16-bit input shift register. SDA is a bidirectional open-drain data line that should be pulled to the supply with an external (See Datasheet)", 7 SCL (in) "Serial Clock Line. This is used in conjunction with the SDA line to clock data into or out of the 16-bit input shift register. Clock rates of up to 400 kbps can be accommodated in the 2-wire interface.", 8 A0 (in) "Address Input. Sets the least significant bit of the 7-bit slave address."

## AD5338BRM
designator U?
Dual 10-Bit Voltage Output Digital-to-Analog Converter with 2-WireInterface, 2.5 to 5.5 V, 250 uA, -40 to +105 degC, RM-8, Tube; Generic Part Number: AD5338; Manufacturer: Analog Devices; PartNumber: AD5338BRM; # DAC Outputs: 2; Max V+: 5.5V; Op Pwr Diss: 1.9mW; Resolution (Bits): 10; Settling Time: 7µs; Single Supply: Yes; DatasheetVersion: Rev.C; PackageVersion: Aug-2005; PackageReference: RM-8; PackageDescription: 8-Lead Mini Small Outline Package [MSOP]; Supplier 1: Digi-Key; Supplier Part Number 1: AD5338BRM-ND; Supplier 2: Mouser; Supplier Part Number 2: 584-AD5338BRM; Packing: Tube; RoHS: N; Mounting Technology: Surface Mount; Code_JEDEC: MO-187-AA; ComponentLink1Description: Manufacturer URL; ComponentLink1URL: http://www.analog.com/en/index.html; ComponentLink2Description: Datasheet; ComponentLink2URL: http://www.analog.com/static/imported-files/data_sheets/AD5337_5338_5339.pdf; ComponentLink3Description: Package Specification; ComponentLink3URL: http://www.analog.com/static/imported-files/packages/PKG_PDF/MSOP%28RM%29/RM_8.pdf; ComponentLink4Description: Product URL; ComponentLink4URL: http://www.analog.com/en/digital-to-analog-converters/da-converters/ad5338/products/product.html
footprint RM-8_N (TSOP, 8-Leads, Body 3x3mm, Pitch 0.65mm, IPC Medium Density)
footprint RM-8_L (TSOP, 8-Leads, Body 3x3mm, Pitch 0.65mm, IPC High Density)
footprint RM-8_M (TSOP, 8-Leads, Body 3x3mm, Pitch 0.65mm, IPC Low Density)
pins: 1 VDD (power) "Power Supply Input. These parts can be operated from 2.5 V to 5.5 V, and the supply should be decoupled to GND.", 2 VOUTA (hiz) "Buffered Analog Output Voltage from DAC A. The output amplifier has rail-to-rail operation.", 3 VOUTB (hiz) "Buffered Analog Output Voltage from DAC B. The output amplifier has rail-to-rail operation.", 4 REFIN (in) "Reference Input Pin for the Two DACs. It has an input range from 0.25 V to VDD.", 5 GND (power) "Ground Reference Point for All Circuitry on the Parts.", 6 SDA (io) "Serial Data Line. This is used in conjunction with the SCL line to clock data into or out of the 16-bit input shift register. SDA is a bidirectional open-drain data line that should be pulled to the supply with an external (See Datasheet)", 7 SCL (in) "Serial Clock Line. This is used in conjunction with the SDA line to clock data into or out of the 16-bit input shift register. Clock rates of up to 400 kbps can be accommodated in the 2-wire interface.", 8 A0 (in) "Address Input. Sets the least significant bit of the 7-bit slave address."

## AD5338BRM-REEL
designator U?
Dual 10-Bit Voltage Output Digital-to-Analog Converter with 2-WireInterface, 2.5 to 5.5 V, 250 uA, -40 to +105 degC, RM-8, Reel; Generic Part Number: AD5338; Manufacturer: Analog Devices; PartNumber: AD5338BRM-REEL; # DAC Outputs: 2; Max V+: 5.5V; Op Pwr Diss: 1.9mW; Resolution (Bits): 10; Settling Time: 7µs; Single Supply: Yes; DatasheetVersion: Rev.C; PackageVersion: Aug-2005; PackageReference: RM-8; PackageDescription: 8-Lead Mini Small Outline Package [MSOP]; Supplier 1: Digi-Key; Supplier Part Number 1: AD5338BRM-REEL-ND; Supplier 2: Mouser; Supplier Part Number 2: 584-AD5338BRM-R; Packing: Reel; RoHS: N; Mounting Technology: Surface Mount; Code_JEDEC: MO-187-AA; ComponentLink1Description: Manufacturer URL; ComponentLink1URL: http://www.analog.com/en/index.html; ComponentLink2Description: Datasheet; ComponentLink2URL: http://www.analog.com/static/imported-files/data_sheets/AD5337_5338_5339.pdf; ComponentLink3Description: Package Specification; ComponentLink3URL: http://www.analog.com/static/imported-files/packages/PKG_PDF/MSOP%28RM%29/RM_8.pdf; ComponentLink4Description: Product URL; ComponentLink4URL: http://www.analog.com/en/digital-to-analog-converters/da-converters/ad5338/products/product.html
footprint RM-8_N (TSOP, 8-Leads, Body 3x3mm, Pitch 0.65mm, IPC Medium Density)
footprint RM-8_L (TSOP, 8-Leads, Body 3x3mm, Pitch 0.65mm, IPC High Density)
footprint RM-8_M (TSOP, 8-Leads, Body 3x3mm, Pitch 0.65mm, IPC Low Density)
pins: 1 VDD (power) "Power Supply Input. These parts can be operated from 2.5 V to 5.5 V, and the supply should be decoupled to GND.", 2 VOUTA (hiz) "Buffered Analog Output Voltage from DAC A. The output amplifier has rail-to-rail operation.", 3 VOUTB (hiz) "Buffered Analog Output Voltage from DAC B. The output amplifier has rail-to-rail operation.", 4 REFIN (in) "Reference Input Pin for the Two DACs. It has an input range from 0.25 V to VDD.", 5 GND (power) "Ground Reference Point for All Circuitry on the Parts.", 6 SDA (io) "Serial Data Line. This is used in conjunction with the SCL line to clock data into or out of the 16-bit input shift register. SDA is a bidirectional open-drain data line that should be pulled to the supply with an external (See Datasheet)", 7 SCL (in) "Serial Clock Line. This is used in conjunction with the SDA line to clock data into or out of the 16-bit input shift register. Clock rates of up to 400 kbps can be accommodated in the 2-wire interface.", 8 A0 (in) "Address Input. Sets the least significant bit of the 7-bit slave address."

## AD5338BRM-REEL7
designator U?
Dual 10-Bit Voltage Output Digital-to-Analog Converter with 2-WireInterface, 2.5 to 5.5 V, 250 uA, -40 to +105 degC, RM-8, Reel; Generic Part Number: AD5338; Manufacturer: Analog Devices; PartNumber: AD5338BRM-REEL7; # DAC Outputs: 2; Max V+: 5.5V; Op Pwr Diss: 1.9mW; Resolution (Bits): 10; Settling Time: 7µs; Single Supply: Yes; DatasheetVersion: Rev.C; PackageVersion: Aug-2005; PackageReference: RM-8; PackageDescription: 8-Lead Mini Small Outline Package [MSOP]; Supplier 1: Digi-Key; Supplier Part Number 1: AD5338BRM-REEL7-ND; Supplier 2: Mouser; Supplier Part Number 2: 584-AD5338BRM-R7; Packing: Reel; RoHS: N; Mounting Technology: Surface Mount; Code_JEDEC: MO-187-AA; ComponentLink1Description: Manufacturer URL; ComponentLink1URL: http://www.analog.com/en/index.html; ComponentLink2Description: Datasheet; ComponentLink2URL: http://www.analog.com/static/imported-files/data_sheets/AD5337_5338_5339.pdf; ComponentLink3Description: Package Specification; ComponentLink3URL: http://www.analog.com/static/imported-files/packages/PKG_PDF/MSOP%28RM%29/RM_8.pdf; ComponentLink4Description: Product URL; ComponentLink4URL: http://www.analog.com/en/digital-to-analog-converters/da-converters/ad5338/products/product.html
footprint RM-8_N (TSOP, 8-Leads, Body 3x3mm, Pitch 0.65mm, IPC Medium Density)
footprint RM-8_L (TSOP, 8-Leads, Body 3x3mm, Pitch 0.65mm, IPC High Density)
footprint RM-8_M (TSOP, 8-Leads, Body 3x3mm, Pitch 0.65mm, IPC Low Density)
pins: 1 VDD (power) "Power Supply Input. These parts can be operated from 2.5 V to 5.5 V, and the supply should be decoupled to GND.", 2 VOUTA (hiz) "Buffered Analog Output Voltage from DAC A. The output amplifier has rail-to-rail operation.", 3 VOUTB (hiz) "Buffered Analog Output Voltage from DAC B. The output amplifier has rail-to-rail operation.", 4 REFIN (in) "Reference Input Pin for the Two DACs. It has an input range from 0.25 V to VDD.", 5 GND (power) "Ground Reference Point for All Circuitry on the Parts.", 6 SDA (io) "Serial Data Line. This is used in conjunction with the SCL line to clock data into or out of the 16-bit input shift register. SDA is a bidirectional open-drain data line that should be pulled to the supply with an external (See Datasheet)", 7 SCL (in) "Serial Clock Line. This is used in conjunction with the SDA line to clock data into or out of the 16-bit input shift register. Clock rates of up to 400 kbps can be accommodated in the 2-wire interface.", 8 A0 (in) "Address Input. Sets the least significant bit of the 7-bit slave address."

## AD5338BRMZ
designator U?
Dual 10-Bit Voltage Output Digital-to-Analog Converter with 2-WireInterface, 2.5 to 5.5 V, 250 uA, -40 to +105 degC, RM-8, Pb-Free, Tube; Generic Part Number: AD5338; Manufacturer: Analog Devices; PartNumber: AD5338BRMZ; # DAC Outputs: 2; Max V+: 5.5V; Op Pwr Diss: 1.9mW; Resolution (Bits): 10; Settling Time: 7µs; Single Supply: Yes; DatasheetVersion: Rev.C; PackageVersion: Aug-2005; PackageReference: RM-8; PackageDescription: 8-Lead Mini Small Outline Package [MSOP]; Supplier 1: Digi-Key; Supplier Part Number 1: AD5338BRMZ-ND; Supplier 2: Newark; Supplier Part Number 2: 59K3984; Supplier 3: Mouser; Supplier Part Number 3: 584-AD5338BRMZ; Packing: Tube; RoHS: Y; Mounting Technology: Surface Mount; Code_JEDEC: MO-187-AA; ComponentLink1Description: Manufacturer URL; ComponentLink1URL: http://www.analog.com/en/index.html; ComponentLink2Description: Datasheet; ComponentLink2URL: http://www.analog.com/static/imported-files/data_sheets/AD5337_5338_5339.pdf; ComponentLink3Description: Package Specification; ComponentLink3URL: http://www.analog.com/static/imported-files/packages/PKG_PDF/MSOP%28RM%29/RM_8.pdf; ComponentLink4Description: Product URL; ComponentLink4URL: http://www.analog.com/en/digital-to-analog-converters/da-converters/ad5338/products/product.html
footprint RM-8_N (TSOP, 8-Leads, Body 3x3mm, Pitch 0.65mm, IPC Medium Density)
footprint RM-8_L (TSOP, 8-Leads, Body 3x3mm, Pitch 0.65mm, IPC High Density)
footprint RM-8_M (TSOP, 8-Leads, Body 3x3mm, Pitch 0.65mm, IPC Low Density)
pins: 1 VDD (power) "Power Supply Input. These parts can be operated from 2.5 V to 5.5 V, and the supply should be decoupled to GND.", 2 VOUTA (hiz) "Buffered Analog Output Voltage from DAC A. The output amplifier has rail-to-rail operation.", 3 VOUTB (hiz) "Buffered Analog Output Voltage from DAC B. The output amplifier has rail-to-rail operation.", 4 REFIN (in) "Reference Input Pin for the Two DACs. It has an input range from 0.25 V to VDD.", 5 GND (power) "Ground Reference Point for All Circuitry on the Parts.", 6 SDA (io) "Serial Data Line. This is used in conjunction with the SCL line to clock data into or out of the 16-bit input shift register. SDA is a bidirectional open-drain data line that should be pulled to the supply with an external (See Datasheet)", 7 SCL (in) "Serial Clock Line. This is used in conjunction with the SDA line to clock data into or out of the 16-bit input shift register. Clock rates of up to 400 kbps can be accommodated in the 2-wire interface.", 8 A0 (in) "Address Input. Sets the least significant bit of the 7-bit slave address."